# Altium footprint library Button_Switch_SMD.PcbLib: 169 footprints (part 2 of 12)
Each footprint in its own frame and in the unit in brackets; x right, y up, seen from the top. Pads: shape width x height; smd on the part's side, far side on the other; paste and mask are expansions set on the pad; w line width, h text height; cw(c..) or ccw(c..) is an arc to the next point about the centre after c.
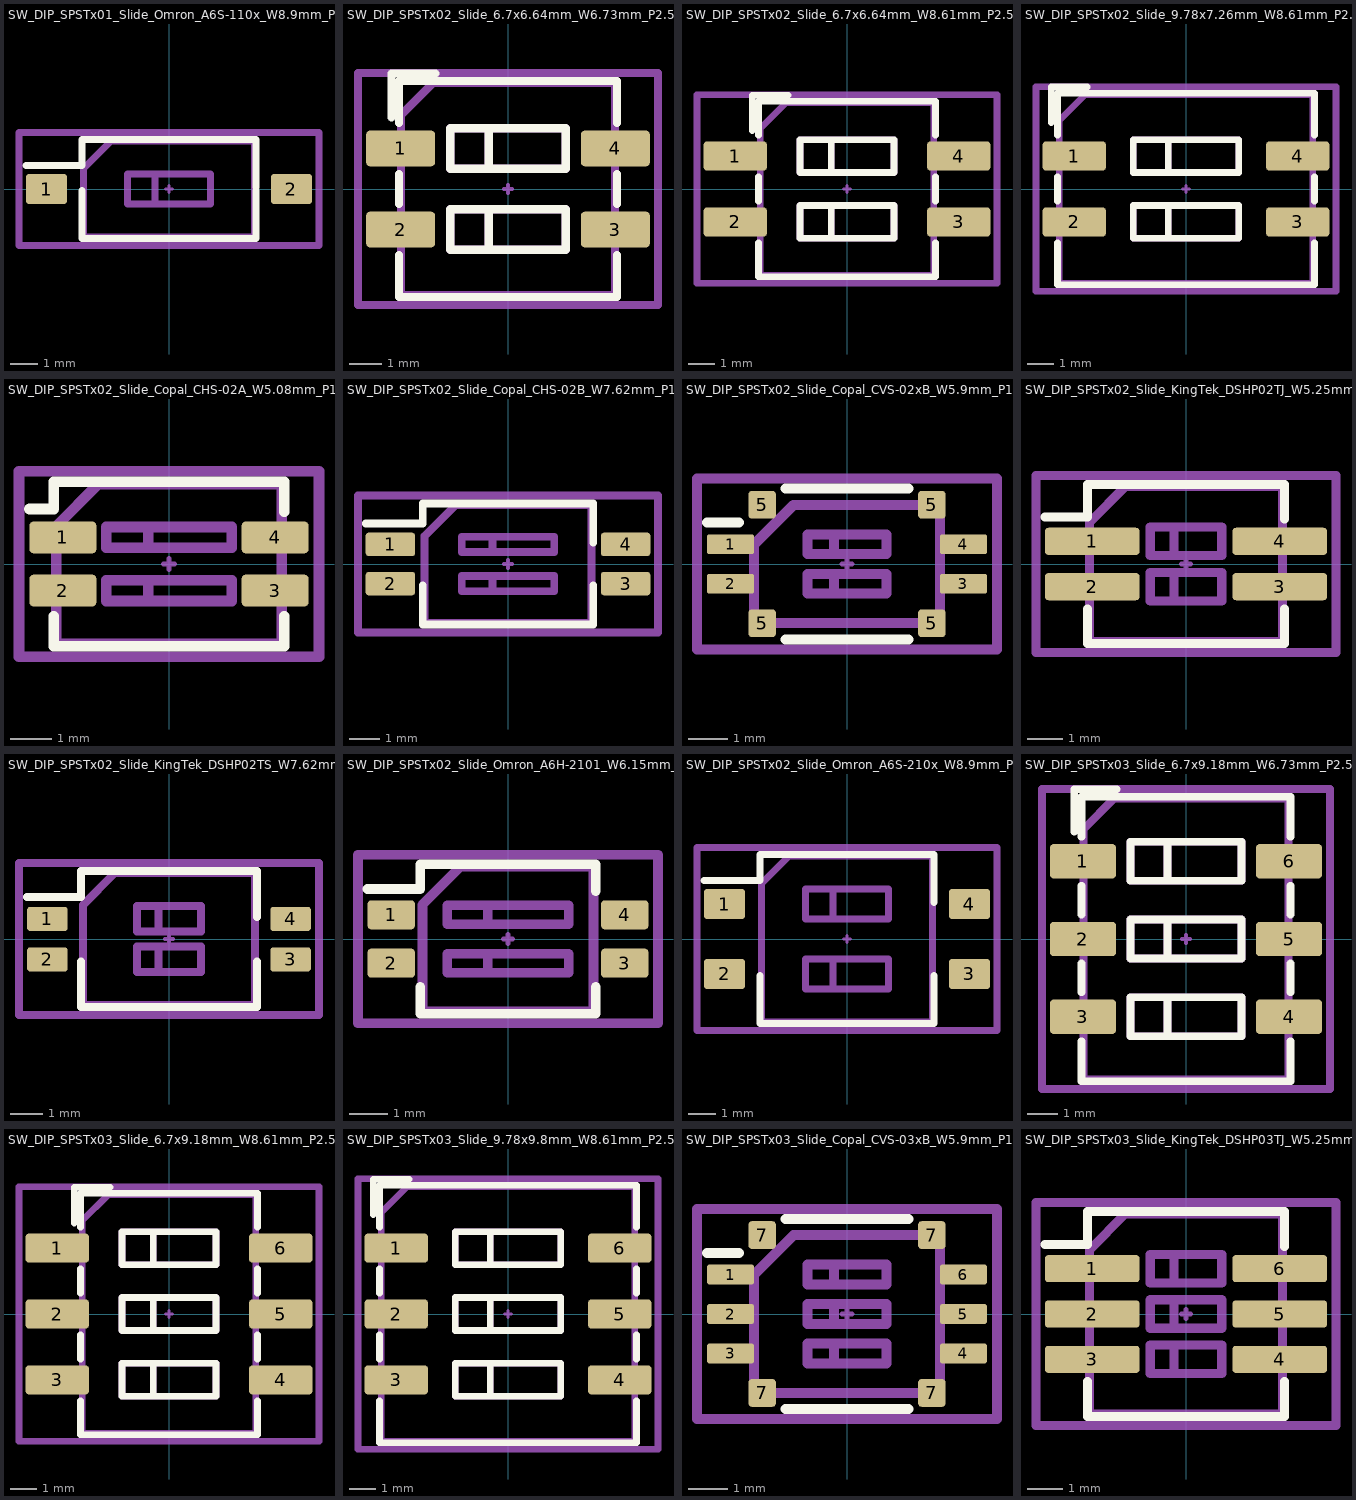
[diagram p1: the footprints below, top view; thin cyan lines are the x and y axes]

## SW_DIP_SPSTx01_Slide_Omron_A6S-110x_W8.9mm_P2.54mm [mm] "SW_DIP_SPSTx01_Slide_Omron_A6S-110x_W8.9mm_P2.54mm"
pads (2):
  rrect23% 1.5x1.1 smd: 1(-4.45,0) 2(4.45,0)
F.SilkS:
  lines w0.254: -5.2,0.85 -3.16,0.85 -3.16,1.8 3.16,1.8 3.16,0.06 ; -3.16,-0.06 -3.16,-1.8 3.16,-1.8 3.16,-0.06
Top Component Center:
  lines w0.127: -0.127,0 0.127,0 ; 0,-0.127 0,0.127
Top Assembly:
  lines w0.254: -1.5,-0.55 -1.5,0.55 ; -1.5,-0.55 -0.5,-0.55 ; -1.5,-0.55 -1.5,0.55 ; -1.5,-0.55 1.5,-0.55 1.5,0.55 -1.5,0.55 ; -1.5,0.55 -0.5,0.55 ; -0.5,-0.55 -0.5,0.55 ; -0.5,-0.55 -0.5,0.55 ; -3.1,-1.74 -3.1,0.74 -2.1,1.74 3.1,1.74 3.1,-1.74 -3.1,-1.74
  text "on" at -0.423,0.855 h0.6
Top Courtyard:
  lines w0.254: -5.45,-2.05 -5.45,2.05 5.45,2.05 5.45,-2.05 -5.45,-2.05
Top Designator:
  text ".Designator" at -3.305,-1.361 h1.52
3D body "SW_DIP_SPSTx01_Slide_Omron_A6S-110x_W8.9mm_P2.54mm.step": height 3.1, standoff 0.03, extent -4.9,-1.74 4.9,1.74

## SW_DIP_SPSTx02_Slide_6.7x6.64mm_W6.73mm_P2.54mm_LowProfile_JPin [mm] "SW_DIP_SPSTx02_Slide_6.7x6.64mm_W6.73mm_P2.54mm_LowProfile_JPin"
pads (4):
  rrect22% 2.16x1.12 smd: 1(-3.365,1.27) 2(-3.365,-1.27) 3(3.365,-1.27) 4(3.365,1.27)
F.SilkS:
  lines w0.254: -3.65,2.237 -3.65,3.62 -2.267,3.62 ; -3.41,-2.07 -3.41,-3.38 3.41,-3.38 3.41,-2.07 ; -3.41,-0.47 -3.41,0.47 ; -3.41,2.07 -3.41,3.38 3.41,3.38 3.41,2.07 ; 3.41,-0.47 3.41,0.47 ; -1.81,-1.905 -1.81,-0.635 ; -1.81,-1.905 -0.603,-1.905 ; -1.81,-1.905 -1.81,-0.635 ; -1.81,-1.905 1.81,-1.905 1.81,-0.635 -1.81,-0.635 ; -1.81,-0.635 -0.603,-0.635 ; -1.81,0.635 -1.81,1.905 ; -1.81,0.635 -0.603,0.635 ; -1.81,0.635 -1.81,1.905 ; -1.81,0.635 1.81,0.635 1.81,1.905 -1.81,1.905 ; -1.81,1.905 -0.603,1.905 ; -0.603,-1.905 -0.603,-0.635 ; -0.603,-1.905 -0.603,-0.635 ; -0.603,0.635 -0.603,1.905 ; -0.603,0.635 -0.603,1.905
Top Component Center:
  lines w0.127: -0.127,0 0.127,0 ; 0,-0.127 0,0.127
Top Assembly:
  lines w0.254: -1.81,-1.905 -1.81,-0.635 ; -1.81,-1.905 -0.603,-1.905 ; -1.81,-1.905 -1.81,-0.635 ; -1.81,-1.905 1.81,-1.905 1.81,-0.635 -1.81,-0.635 ; -1.81,-0.635 -0.603,-0.635 ; -1.81,0.635 -1.81,1.905 ; -1.81,0.635 -0.603,0.635 ; -1.81,0.635 -1.81,1.905 ; -1.81,0.635 1.81,0.635 1.81,1.905 -1.81,1.905 ; -1.81,1.905 -0.603,1.905 ; -0.603,-1.905 -0.603,-0.635 ; -0.603,-1.905 -0.603,-0.635 ; -0.603,0.635 -0.603,1.905 ; -0.603,0.635 -0.603,1.905 ; -3.35,-3.32 -3.35,2.32 -2.35,3.32 3.35,3.32 3.35,-3.32 -3.35,-3.32
  text "on" at 0.233,2.226 h0.8
Top Courtyard:
  lines w0.254: -4.7,-3.63 -4.7,3.63 4.7,3.63 4.7,-3.63 -4.7,-3.63
Top Designator:
  text ".Designator" at -3.432,-0.345 h1.52
3D body "SW_DIP_SPSTx02_Slide_6.7x6.64mm_W6.73mm_P2.54mm_LowProfile_JPin.step": height 3.2, standoff -0.1, extent -3.32,-3.45 3.32,3.45

## SW_DIP_SPSTx02_Slide_6.7x6.64mm_W8.61mm_P2.54mm_LowProfile [mm] "SW_DIP_SPSTx02_Slide_6.7x6.64mm_W8.61mm_P2.54mm_LowProfile"
pads (4):
  rrect22% 2.44x1.12 smd: 1(-4.305,1.27) 2(-4.305,-1.27) 3(4.305,-1.27) 4(4.305,1.27)
F.SilkS:
  lines w0.254: -3.65,2.237 -3.65,3.62 -2.267,3.62 ; -3.41,-2.07 -3.41,-3.38 3.41,-3.38 3.41,-2.07 ; -3.41,-0.47 -3.41,0.47 ; -3.41,2.07 -3.41,3.38 3.41,3.38 3.41,2.07 ; 3.41,-0.47 3.41,0.47 ; -1.81,-1.905 -1.81,-0.635 ; -1.81,-1.905 -0.603,-1.905 ; -1.81,-1.905 -1.81,-0.635 ; -1.81,-1.905 1.81,-1.905 1.81,-0.635 -1.81,-0.635 ; -1.81,-0.635 -0.603,-0.635 ; -1.81,0.635 -1.81,1.905 ; -1.81,0.635 -0.603,0.635 ; -1.81,0.635 -1.81,1.905 ; -1.81,0.635 1.81,0.635 1.81,1.905 -1.81,1.905 ; -1.81,1.905 -0.603,1.905 ; -0.603,-1.905 -0.603,-0.635 ; -0.603,-1.905 -0.603,-0.635 ; -0.603,0.635 -0.603,1.905 ; -0.603,0.635 -0.603,1.905
Top Component Center:
  lines w0.127: -0.127,0 0.127,0 ; 0,-0.127 0,0.127
Top Assembly:
  lines w0.254: -1.81,-1.905 -1.81,-0.635 ; -1.81,-1.905 -0.603,-1.905 ; -1.81,-1.905 -1.81,-0.635 ; -1.81,-1.905 1.81,-1.905 1.81,-0.635 -1.81,-0.635 ; -1.81,-0.635 -0.603,-0.635 ; -1.81,0.635 -1.81,1.905 ; -1.81,0.635 -0.603,0.635 ; -1.81,0.635 -1.81,1.905 ; -1.81,0.635 1.81,0.635 1.81,1.905 -1.81,1.905 ; -1.81,1.905 -0.603,1.905 ; -0.603,-1.905 -0.603,-0.635 ; -0.603,-1.905 -0.603,-0.635 ; -0.603,0.635 -0.603,1.905 ; -0.603,0.635 -0.603,1.905 ; -3.35,-3.32 -3.35,2.32 -2.35,3.32 3.35,3.32 3.35,-3.32 -3.35,-3.32
  text "on" at -0.237,2.226 h0.8
Top Courtyard:
  lines w0.254: -5.78,-3.63 -5.78,3.63 5.78,3.63 5.78,-3.63 -5.78,-3.63
Top Designator:
  text ".Designator" at -3.432,-0.345 h1.52
3D body "SW_DIP_SPSTx02_Slide_6.7x6.64mm_W8.61mm_P2.54mm_LowProfile.step": height 2.7, standoff 0, extent -3.32,-4.305 3.32,4.305

## SW_DIP_SPSTx02_Slide_9.78x7.26mm_W8.61mm_P2.54mm [mm] "SW_DIP_SPSTx02_Slide_9.78x7.26mm_W8.61mm_P2.54mm"
pads (4):
  rrect22% 2.44x1.12 smd: 1(-4.305,1.27) 2(-4.305,-1.27) 3(4.305,-1.27) 4(4.305,1.27)
F.SilkS:
  lines w0.254: -5.19,2.547 -5.19,3.93 -3.807,3.93 ; -4.95,-2.07 -4.95,-3.69 4.95,-3.69 4.95,-2.07 ; -4.95,-0.47 -4.95,0.47 ; -4.95,2.07 -4.95,3.69 4.95,3.69 4.95,2.07 ; 4.95,-0.47 4.95,0.47 ; -2.03,-1.905 -2.03,-0.635 ; -2.03,-1.905 -0.677,-1.905 ; -2.03,-1.905 -2.03,-0.635 ; -2.03,-1.905 2.03,-1.905 2.03,-0.635 -2.03,-0.635 ; -2.03,-0.635 -0.677,-0.635 ; -2.03,0.635 -2.03,1.905 ; -2.03,0.635 -0.677,0.635 ; -2.03,0.635 -2.03,1.905 ; -2.03,0.635 2.03,0.635 2.03,1.905 -2.03,1.905 ; -2.03,1.905 -0.677,1.905 ; -0.677,-1.905 -0.677,-0.635 ; -0.677,-1.905 -0.677,-0.635 ; -0.677,0.635 -0.677,1.905 ; -0.677,0.635 -0.677,1.905
Top Component Center:
  lines w0.127: -0.127,0 0.127,0 ; 0,-0.127 0,0.127
Top Assembly:
  lines w0.254: -2.03,-1.905 -2.03,-0.635 ; -2.03,-1.905 -0.677,-1.905 ; -2.03,-1.905 -2.03,-0.635 ; -2.03,-1.905 2.03,-1.905 2.03,-0.635 -2.03,-0.635 ; -2.03,-0.635 -0.677,-0.635 ; -2.03,0.635 -2.03,1.905 ; -2.03,0.635 -0.677,0.635 ; -2.03,0.635 -2.03,1.905 ; -2.03,0.635 2.03,0.635 2.03,1.905 -2.03,1.905 ; -2.03,1.905 -0.677,1.905 ; -0.677,-1.905 -0.677,-0.635 ; -0.677,-1.905 -0.677,-0.635 ; -0.677,0.635 -0.677,1.905 ; -0.677,0.635 -0.677,1.905 ; -4.89,-3.63 -4.89,2.63 -3.89,3.63 4.89,3.63 4.89,-3.63 -4.89,-3.63
  text "on" at 0.643,2.381 h0.8
Top Courtyard:
  lines w0.254: -5.78,-3.94 -5.78,3.94 5.78,3.94 5.78,-3.94 -5.78,-3.94
Top Designator:
  text ".Designator" at -3.432,-0.345 h1.52
3D body "SW_DIP_SPSTx02_Slide_9.78x7.26mm_W8.61mm_P2.54mm.step": height 8.6, standoff 0, extent -3.63,-5.2 3.63,5.2

## SW_DIP_SPSTx02_Slide_Copal_CHS-02A_W5.08mm_P1.27mm_JPin [mm] "SW_DIP_SPSTx02_Slide_Copal_CHS-02A_W5.08mm_P1.27mm_JPin"
pads (4):
  rrect25% 1.6x0.76 smd: 1(-2.54,0.635) 2(-2.54,-0.635) 3(2.54,-0.635) 4(2.54,0.635)
F.SilkS:
  lines w0.254: -3.34,1.315 -2.76,1.315 -2.76,1.965 2.76,1.965 2.76,1.255 ; -2.76,-1.255 -2.76,-1.965 2.76,-1.965 2.76,-1.255
Top Component Center:
  lines w0.127: -0.127,0 0.127,0 ; 0,-0.127 0,0.127
Top Assembly:
  lines w0.254: -1.5,-0.885 -1.5,-0.385 ; -1.5,-0.885 -0.5,-0.885 ; -1.5,-0.885 -1.5,-0.385 ; -1.5,-0.885 1.5,-0.885 1.5,-0.385 -1.5,-0.385 ; -1.5,-0.385 -0.5,-0.385 ; -1.5,0.385 -1.5,0.885 ; -1.5,0.385 -0.5,0.385 ; -1.5,0.385 -1.5,0.885 ; -1.5,0.385 1.5,0.385 1.5,0.885 -1.5,0.885 ; -1.5,0.885 -0.5,0.885 ; -0.5,-0.885 -0.5,-0.385 ; -0.5,-0.885 -0.5,-0.385 ; -0.5,0.385 -0.5,0.885 ; -0.5,0.385 -0.5,0.885 ; -2.7,-1.905 -2.7,0.905 -1.7,1.905 2.7,1.905 2.7,-1.905 -2.7,-1.905
  text "on" at 0.165,1.008 h0.8
Top Courtyard:
  lines w0.254: -3.59,-2.22 -3.59,2.22 3.59,2.22 3.59,-2.22 -3.59,-2.22
Top Designator:
  text ".Designator" at -3.432,-0.345 h1.52
3D body "SW_DIP_SPSTx02_Slide_Copal_CHS-02A_W5.08mm_P1.27mm_JPin.step": height 2.65, standoff 0, extent -2.8,-1.885 2.8,1.885

## SW_DIP_SPSTx02_Slide_Copal_CHS-02B_W7.62mm_P1.27mm [mm] "SW_DIP_SPSTx02_Slide_Copal_CHS-02B_W7.62mm_P1.27mm"
pads (4):
  rrect25% 1.6x0.76 smd: 1(-3.81,0.635) 2(-3.81,-0.635) 3(3.81,-0.635) 4(3.81,0.635)
F.SilkS:
  lines w0.254: -4.61,1.315 -2.76,1.315 -2.76,1.965 2.76,1.965 2.76,0.695 ; -2.76,-0.695 -2.76,-1.965 2.76,-1.965 2.76,-0.695
Top Component Center:
  lines w0.127: -0.127,0 0.127,0 ; 0,-0.127 0,0.127
Top Assembly:
  lines w0.254: -1.5,-0.885 -1.5,-0.385 ; -1.5,-0.885 -0.5,-0.885 ; -1.5,-0.885 -1.5,-0.385 ; -1.5,-0.885 1.5,-0.885 1.5,-0.385 -1.5,-0.385 ; -1.5,-0.385 -0.5,-0.385 ; -1.5,0.385 -1.5,0.885 ; -1.5,0.385 -0.5,0.385 ; -1.5,0.385 -1.5,0.885 ; -1.5,0.385 1.5,0.385 1.5,0.885 -1.5,0.885 ; -1.5,0.885 -0.5,0.885 ; -0.5,-0.885 -0.5,-0.385 ; -0.5,-0.885 -0.5,-0.385 ; -0.5,0.385 -0.5,0.885 ; -0.5,0.385 -0.5,0.885 ; -2.7,-1.905 -2.7,0.905 -1.7,1.905 2.7,1.905 2.7,-1.905 -2.7,-1.905
  text "on" at -0.47,1.008 h0.8
Top Courtyard:
  lines w0.254: -4.86,-2.22 -4.86,2.22 4.86,2.22 4.86,-2.22 -4.86,-2.22
Top Designator:
  text ".Designator" at -3.432,-0.345 h1.52
3D body "SW_DIP_SPSTx02_Slide_Copal_CHS-02B_W7.62mm_P1.27mm.step": height 2.6, standoff 0.03, extent -4,-1.885 4,1.885

## SW_DIP_SPSTx02_Slide_Copal_CVS-02xB_W5.9mm_P1mm [mm] "SW_DIP_SPSTx02_Slide_Copal_CVS-02xB_W5.9mm_P1mm"
pads (8):
  rrect25% 1.2x0.5 smd: 1(-2.95,0.5) 2(-2.95,-0.5) 3(2.95,-0.5) 4(2.95,0.5)
  rrect25% 0.7x0.7 smd: 5(-2.15,-1.5) 5(-2.15,1.5) 5(2.15,-1.5) 5(2.15,1.5)
F.SilkS:
  lines w0.254: -3.55,1.05 -2.74,1.05 ; -1.56,-1.91 1.56,-1.91 ; -1.56,1.91 1.56,1.91
Top Component Center:
  lines w0.127: -0.127,0 0.127,0 ; 0,-0.127 0,0.127
Top Assembly:
  lines w0.254: -1,-0.75 -1,-0.25 ; -1,-0.75 -0.333,-0.75 ; -1,-0.75 -1,-0.25 ; -1,-0.75 1,-0.75 1,-0.25 -1,-0.25 ; -1,-0.25 -0.333,-0.25 ; -1,0.25 -1,0.75 ; -1,0.25 -0.333,0.25 ; -1,0.25 -1,0.75 ; -1,0.25 1,0.25 1,0.75 -1,0.75 ; -1,0.75 -0.333,0.75 ; -0.333,-0.75 -0.333,-0.25 ; -0.333,-0.75 -0.333,-0.25 ; -0.333,0.25 -0.333,0.75 ; -0.333,0.25 -0.333,0.75 ; -2.35,-1.5 -2.35,0.5 -1.35,1.5 2.35,1.5 2.35,-1.5 -2.35,-1.5
  text "on" at -0.465,0.738 h0.8
Top Courtyard:
  lines w0.254: -3.8,-2.16 -3.8,2.16 3.8,2.16 3.8,-2.16 -3.8,-2.16
Top Designator:
  text ".Designator" at -3.432,-0.345 h1.52
3D body "SW_DIP_SPSTx02_Slide_Copal_CVS-02xB_W5.9mm_P1mm.step": height 1.58, standoff 0.08, extent -3.05,-1.5 3.05,1.5

## SW_DIP_SPSTx02_Slide_KingTek_DSHP02TJ_W5.25mm_P1.27mm_JPin [mm] "SW_DIP_SPSTx02_Slide_KingTek_DSHP02TJ_W5.25mm_P1.27mm_JPin"
pads (4):
  rrect25% 2.65x0.76 smd: 1(-2.625,0.635) 2(-2.625,-0.635) 3(2.625,-0.635) 4(2.625,0.635)
F.SilkS:
  lines w0.254: -3.95,1.315 -2.76,1.315 -2.76,2.23 2.76,2.23 2.76,1.255 ; -2.76,-1.255 -2.76,-2.23 2.76,-2.23 2.76,-1.255
Top Component Center:
  lines w0.127: -0.127,0 0.127,0 ; 0,-0.127 0,0.127
Top Assembly:
  lines w0.254: -1,-1.035 -1,-0.235 ; -1,-1.035 -0.333,-1.035 ; -1,-1.035 -1,-0.235 ; -1,-1.035 1,-1.035 1,-0.235 -1,-0.235 ; -1,-0.235 -0.333,-0.235 ; -1,0.235 -1,1.035 ; -1,0.235 -0.333,0.235 ; -1,0.235 -1,1.035 ; -1,0.235 1,0.235 1,1.035 -1,1.035 ; -1,1.035 -0.333,1.035 ; -0.333,-1.035 -0.333,-0.235 ; -0.333,-1.035 -0.333,-0.235 ; -0.333,0.235 -0.333,1.035 ; -0.333,0.235 -0.333,1.035 ; -2.7,-2.17 -2.7,1.17 -1.7,2.17 2.7,2.17 2.7,-2.17 -2.7,-2.17
  text "on" at -0.127,1.216 h0.8
Top Courtyard:
  lines w0.254: -4.2,-2.48 -4.2,2.48 4.2,2.48 4.2,-2.48 -4.2,-2.48
Top Designator:
  text ".Designator" at -3.432,-0.345 h1.52
3D body "SW_DIP_SPSTx02_Slide_KingTek_DSHP02TJ_W5.25mm_P1.27mm_JPin.step": height 2.4, standoff -0.05, extent -2.8,-2.07 2.8,2.07

## SW_DIP_SPSTx02_Slide_KingTek_DSHP02TS_W7.62mm_P1.27mm [mm] "SW_DIP_SPSTx02_Slide_KingTek_DSHP02TS_W7.62mm_P1.27mm"
pads (4):
  rrect25% 1.27x0.76 smd: 1(-3.81,0.635) 2(-3.81,-0.635) 3(3.81,-0.635) 4(3.81,0.635)
F.SilkS:
  lines w0.254: -4.445,1.315 -2.76,1.315 -2.76,2.13 2.76,2.13 2.76,0.695 ; -2.76,-0.695 -2.76,-2.13 2.76,-2.13 2.76,-0.695
Top Component Center:
  lines w0.127: -0.127,0 0.127,0 ; 0,-0.127 0,0.127
Top Assembly:
  lines w0.254: -1,-1.035 -1,-0.235 ; -1,-1.035 -0.333,-1.035 ; -1,-1.035 -1,-0.235 ; -1,-1.035 1,-1.035 1,-0.235 -1,-0.235 ; -1,-0.235 -0.333,-0.235 ; -1,0.235 -1,1.035 ; -1,0.235 -0.333,0.235 ; -1,0.235 -1,1.035 ; -1,0.235 1,0.235 1,1.035 -1,1.035 ; -1,1.035 -0.333,1.035 ; -0.333,-1.035 -0.333,-0.235 ; -0.333,-1.035 -0.333,-0.235 ; -0.333,0.235 -0.333,1.035 ; -0.333,0.235 -0.333,1.035 ; -2.7,-2.07 -2.7,1.07 -1.7,2.07 2.7,2.07 2.7,-2.07 -2.7,-2.07
  text "on" at -0.72,1.166 h0.8
Top Courtyard:
  lines w0.254: -4.7,-2.38 -4.7,2.39 4.7,2.39 4.7,-2.38 -4.7,-2.38
Top Designator:
  text ".Designator" at -3.432,-0.345 h1.52
3D body "SW_DIP_SPSTx02_Slide_KingTek_DSHP02TS_W7.62mm_P1.27mm.step": height 2.45, standoff 0.08, extent -4.175,-2.07 4.175,2.07

## SW_DIP_SPSTx02_Slide_Omron_A6H-2101_W6.15mm_P1.27mm [mm] "SW_DIP_SPSTx02_Slide_Omron_A6H-2101_W6.15mm_P1.27mm"
pads (4):
  rrect25% 1.25x0.76 smd: 1(-3.075,0.635) 2(-3.075,-0.635) 3(3.075,-0.635) 4(3.075,0.635)
F.SilkS:
  lines w0.254: -3.7,1.315 -2.31,1.315 -2.31,1.965 2.31,1.965 2.31,1.255 ; -2.31,-1.255 -2.31,-1.965 2.31,-1.965 2.31,-1.255
Top Component Center:
  lines w0.127: -0.127,0 0.127,0 ; 0,-0.127 0,0.127
Top Assembly:
  lines w0.254: -1.6,-0.885 1.6,-0.885 1.6,-0.385 -1.6,-0.385 ; -1.6,-0.885 -1.6,-0.385 ; -1.6,-0.885 -0.533,-0.885 ; -1.6,-0.885 -1.6,-0.385 ; -1.6,-0.385 -0.533,-0.385 ; -1.6,0.385 1.6,0.385 1.6,0.885 -1.6,0.885 ; -1.6,0.385 -1.6,0.885 ; -1.6,0.385 -0.533,0.385 ; -1.6,0.385 -1.6,0.885 ; -1.6,0.885 -0.533,0.885 ; -0.533,-0.885 -0.533,-0.385 ; -0.533,-0.885 -0.533,-0.385 ; -0.533,0.385 -0.533,0.885 ; -0.533,0.385 -0.533,0.885 ; -2.25,-1.905 2.25,-1.905 2.25,1.905 -1.25,1.905 -2.25,0.905 -2.25,-1.905
  text "on" at 0.009,1.175 h0.46
Top Courtyard:
  lines w0.254: -3.95,-2.22 3.95,-2.22 3.95,2.22 -3.95,2.22 -3.95,-2.22
Top Designator:
  text ".Designator" at -3.432,-0.345 h1.52
3D body "SW_DIP_SPSTx02_Slide_Omron_A6H-2101_W6.15mm_P1.27mm.step": height 1.55, standoff 0.03, extent -3.35,-1.885 3.35,1.885

## SW_DIP_SPSTx02_Slide_Omron_A6S-210x_W8.9mm_P2.54mm [mm] "SW_DIP_SPSTx02_Slide_Omron_A6S-210x_W8.9mm_P2.54mm"
pads (4):
  rrect23% 1.5x1.1 smd: 1(-4.45,1.27) 2(-4.45,-1.27) 3(4.45,-1.27) 4(4.45,1.27)
F.SilkS:
  lines w0.254: -5.2,2.12 -3.16,2.12 -3.16,3.07 3.16,3.07 3.16,1.33 ; -3.16,-1.33 -3.16,-3.07 3.16,-3.07 3.16,-1.33
Top Component Center:
  lines w0.127: -0.127,0 0.127,0 ; 0,-0.127 0,0.127
Top Assembly:
  lines w0.254: -1.5,-1.82 -1.5,-0.72 ; -1.5,-1.82 -0.5,-1.82 ; -1.5,-1.82 -1.5,-0.72 ; -1.5,-1.82 1.5,-1.82 1.5,-0.72 -1.5,-0.72 ; -1.5,-0.72 -0.5,-0.72 ; -1.5,0.72 -1.5,1.82 ; -1.5,0.72 -0.5,0.72 ; -1.5,0.72 -1.5,1.82 ; -1.5,0.72 1.5,0.72 1.5,1.82 -1.5,1.82 ; -1.5,1.82 -0.5,1.82 ; -0.5,-1.82 -0.5,-0.72 ; -0.5,-1.82 -0.5,-0.72 ; -0.5,0.72 -0.5,1.82 ; -0.5,0.72 -0.5,1.82 ; -3.1,-3.01 -3.1,2.01 -2.1,3.01 3.1,3.01 3.1,-3.01 -3.1,-3.01
  text "on" at -0.59,2.028 h0.8
Top Courtyard:
  lines w0.254: -5.45,-3.32 -5.45,3.32 5.45,3.32 5.45,-3.32 -5.45,-3.32
Top Designator:
  text ".Designator" at -3.432,-0.345 h1.52
3D body "SW_DIP_SPSTx02_Slide_Omron_A6S-210x_W8.9mm_P2.54mm.step": height 3.1, standoff 0.03, extent -4.9,-3.01 4.9,3.01

## SW_DIP_SPSTx03_Slide_6.7x9.18mm_W6.73mm_P2.54mm_LowProfile_JPin [mm] "SW_DIP_SPSTx03_Slide_6.7x9.18mm_W6.73mm_P2.54mm_LowProfile_JPin"
pads (6):
  rrect22% 2.16x1.12 smd: 1(-3.365,2.54) 2(-3.365,0) 3(-3.365,-2.54) 4(3.365,-2.54) 5(3.365,0) 6(3.365,2.54)
F.SilkS:
  lines w0.254: -3.65,3.507 -3.65,4.89 -2.267,4.89 ; -3.41,-3.34 -3.41,-4.65 3.41,-4.65 3.41,-3.34 ; -3.41,-1.74 -3.41,-0.8 ; -3.41,0.8 -3.41,1.74 ; -3.41,3.34 -3.41,4.65 3.41,4.65 3.41,3.34 ; 3.41,-1.74 3.41,-0.8 ; 3.41,0.8 3.41,1.74 ; -1.81,-3.175 -1.81,-1.905 ; -1.81,-3.175 -0.603,-3.175 ; -1.81,-3.175 -1.81,-1.905 ; -1.81,-3.175 1.81,-3.175 1.81,-1.905 -1.81,-1.905 ; -1.81,-1.905 -0.603,-1.905 ; -1.81,-0.635 -1.81,0.635 ; -1.81,-0.635 -0.603,-0.635 ; -1.81,-0.635 -1.81,0.635 ; -1.81,-0.635 1.81,-0.635 1.81,0.635 -1.81,0.635 ; -1.81,0.635 -0.603,0.635 ; -1.81,1.905 -1.81,3.175 ; -1.81,1.905 -0.603,1.905 ; -1.81,1.905 -1.81,3.175 ; -1.81,1.905 1.81,1.905 1.81,3.175 -1.81,3.175 ; -1.81,3.175 -0.603,3.175 ; -0.603,-3.175 -0.603,-1.905 ; -0.603,-3.175 -0.603,-1.905 ; -0.603,-0.635 -0.603,0.635 ; -0.603,-0.635 -0.603,0.635 ; -0.603,1.905 -0.603,3.175 ; -0.603,1.905 -0.603,3.175
Top Component Center:
  lines w0.127: -0.127,0 0.127,0 ; 0,-0.127 0,0.127
Top Assembly:
  lines w0.254: -1.81,-3.175 -1.81,-1.905 ; -1.81,-3.175 -0.603,-3.175 ; -1.81,-3.175 -1.81,-1.905 ; -1.81,-3.175 1.81,-3.175 1.81,-1.905 -1.81,-1.905 ; -1.81,-1.905 -0.603,-1.905 ; -1.81,-0.635 -1.81,0.635 ; -1.81,-0.635 -0.603,-0.635 ; -1.81,-0.635 -1.81,0.635 ; -1.81,-0.635 1.81,-0.635 1.81,0.635 -1.81,0.635 ; -1.81,0.635 -0.603,0.635 ; -1.81,1.905 -1.81,3.175 ; -1.81,1.905 -0.603,1.905 ; -1.81,1.905 -1.81,3.175 ; -1.81,1.905 1.81,1.905 1.81,3.175 -1.81,3.175 ; -1.81,3.175 -0.603,3.175 ; -0.603,-3.175 -0.603,-1.905 ; -0.603,-3.175 -0.603,-1.905 ; -0.603,-0.635 -0.603,0.635 ; -0.603,-0.635 -0.603,0.635 ; -0.603,1.905 -0.603,3.175 ; -0.603,1.905 -0.603,3.175 ; -3.35,-4.59 -3.35,3.59 -2.35,4.59 3.35,4.59 3.35,-4.59 -3.35,-4.59
  text "on" at 0.233,3.496 h0.8
Top Courtyard:
  lines w0.254: -4.7,-4.9 -4.7,4.9 4.7,4.9 4.7,-4.9 -4.7,-4.9
Top Designator:
  text ".Designator" at -3.432,0.798 h1.52
3D body "SW_DIP_SPSTx03_Slide_6.7x9.18mm_W6.73mm_P2.54mm_LowProfile_JPin.step": height 3.2, standoff -0.1, extent -4.59,-3.45 4.59,3.45

## SW_DIP_SPSTx03_Slide_6.7x9.18mm_W8.61mm_P2.54mm_LowProfile [mm] "SW_DIP_SPSTx03_Slide_6.7x9.18mm_W8.61mm_P2.54mm_LowProfile"
pads (6):
  rrect22% 2.44x1.12 smd: 1(-4.305,2.54) 2(-4.305,0) 3(-4.305,-2.54) 4(4.305,-2.54) 5(4.305,0) 6(4.305,2.54)
F.SilkS:
  lines w0.254: -3.65,3.507 -3.65,4.89 -2.267,4.89 ; -3.41,-3.34 -3.41,-4.65 3.41,-4.65 3.41,-3.34 ; -3.41,-1.74 -3.41,-0.8 ; -3.41,0.8 -3.41,1.74 ; -3.41,3.34 -3.41,4.65 3.41,4.65 3.41,3.34 ; 3.41,-1.74 3.41,-0.8 ; 3.41,0.8 3.41,1.74 ; -1.81,-3.175 -1.81,-1.905 ; -1.81,-3.175 -0.603,-3.175 ; -1.81,-3.175 -1.81,-1.905 ; -1.81,-3.175 1.81,-3.175 1.81,-1.905 -1.81,-1.905 ; -1.81,-1.905 -0.603,-1.905 ; -1.81,-0.635 -1.81,0.635 ; -1.81,-0.635 -0.603,-0.635 ; -1.81,-0.635 -1.81,0.635 ; -1.81,-0.635 1.81,-0.635 1.81,0.635 -1.81,0.635 ; -1.81,0.635 -0.603,0.635 ; -1.81,1.905 -1.81,3.175 ; -1.81,1.905 -0.603,1.905 ; -1.81,1.905 -1.81,3.175 ; -1.81,1.905 1.81,1.905 1.81,3.175 -1.81,3.175 ; -1.81,3.175 -0.603,3.175 ; -0.603,-3.175 -0.603,-1.905 ; -0.603,-3.175 -0.603,-1.905 ; -0.603,-0.635 -0.603,0.635 ; -0.603,-0.635 -0.603,0.635 ; -0.603,1.905 -0.603,3.175 ; -0.603,1.905 -0.603,3.175
Top Component Center:
  lines w0.127: -0.127,0 0.127,0 ; 0,-0.127 0,0.127
Top Assembly:
  lines w0.254: -1.81,-3.175 -1.81,-1.905 ; -1.81,-3.175 -0.603,-3.175 ; -1.81,-3.175 -1.81,-1.905 ; -1.81,-3.175 1.81,-3.175 1.81,-1.905 -1.81,-1.905 ; -1.81,-1.905 -0.603,-1.905 ; -1.81,-0.635 -1.81,0.635 ; -1.81,-0.635 -0.603,-0.635 ; -1.81,-0.635 -1.81,0.635 ; -1.81,-0.635 1.81,-0.635 1.81,0.635 -1.81,0.635 ; -1.81,0.635 -0.603,0.635 ; -1.81,1.905 -1.81,3.175 ; -1.81,1.905 -0.603,1.905 ; -1.81,1.905 -1.81,3.175 ; -1.81,1.905 1.81,1.905 1.81,3.175 -1.81,3.175 ; -1.81,3.175 -0.603,3.175 ; -0.603,-3.175 -0.603,-1.905 ; -0.603,-3.175 -0.603,-1.905 ; -0.603,-0.635 -0.603,0.635 ; -0.603,-0.635 -0.603,0.635 ; -0.603,1.905 -0.603,3.175 ; -0.603,1.905 -0.603,3.175 ; -3.35,-4.59 -3.35,3.59 -2.35,4.59 3.35,4.59 3.35,-4.59 -3.35,-4.59
  text "on" at -0.237,3.496 h0.8
Top Courtyard:
  lines w0.254: -5.78,-4.9 -5.78,4.9 5.78,4.9 5.78,-4.9 -5.78,-4.9
Top Designator:
  text ".Designator" at -3.559,0.798 h1.52
3D body "SW_DIP_SPSTx03_Slide_6.7x9.18mm_W8.61mm_P2.54mm_LowProfile.step": height 2.7, standoff 0, extent -4.59,-4.305 4.59,4.305

## SW_DIP_SPSTx03_Slide_9.78x9.8mm_W8.61mm_P2.54mm [mm] "SW_DIP_SPSTx03_Slide_9.78x9.8mm_W8.61mm_P2.54mm"
pads (6):
  rrect22% 2.44x1.12 smd: 1(-4.305,2.54) 2(-4.305,0) 3(-4.305,-2.54) 4(4.305,-2.54) 5(4.305,0) 6(4.305,2.54)
F.SilkS:
  lines w0.254: -5.19,3.817 -5.19,5.2 -3.807,5.2 ; -4.95,-3.34 -4.95,-4.96 4.95,-4.96 4.95,-3.34 ; -4.95,-1.74 -4.95,-0.8 ; -4.95,0.8 -4.95,1.74 ; -4.95,3.34 -4.95,4.96 4.95,4.96 4.95,3.34 ; 4.95,-1.74 4.95,-0.8 ; 4.95,0.8 4.95,1.74 ; -2.03,-3.175 2.03,-3.175 2.03,-1.905 -2.03,-1.905 ; -2.03,-3.175 -2.03,-1.905 ; -2.03,-3.175 -0.677,-3.175 ; -2.03,-3.175 -2.03,-1.905 ; -2.03,-1.905 -0.677,-1.905 ; -2.03,-0.635 2.03,-0.635 2.03,0.635 -2.03,0.635 ; -2.03,-0.635 -2.03,0.635 ; -2.03,-0.635 -0.677,-0.635 ; -2.03,-0.635 -2.03,0.635 ; -2.03,0.635 -0.677,0.635 ; -2.03,1.905 2.03,1.905 2.03,3.175 -2.03,3.175 ; -2.03,1.905 -2.03,3.175 ; -2.03,1.905 -0.677,1.905 ; -2.03,1.905 -2.03,3.175 ; -2.03,3.175 -0.677,3.175 ; -0.677,-3.175 -0.677,-1.905 ; -0.677,-3.175 -0.677,-1.905 ; -0.677,-0.635 -0.677,0.635 ; -0.677,-0.635 -0.677,0.635 ; -0.677,1.905 -0.677,3.175 ; -0.677,1.905 -0.677,3.175
Top Component Center:
  lines w0.127: -0.127,0 0.127,0 ; 0,-0.127 0,0.127
Top Assembly:
  lines w0.254: -2.03,-3.175 2.03,-3.175 2.03,-1.905 -2.03,-1.905 ; -2.03,-3.175 -2.03,-1.905 ; -2.03,-3.175 -0.677,-3.175 ; -2.03,-3.175 -2.03,-1.905 ; -2.03,-1.905 -0.677,-1.905 ; -2.03,-0.635 2.03,-0.635 2.03,0.635 -2.03,0.635 ; -2.03,-0.635 -2.03,0.635 ; -2.03,-0.635 -0.677,-0.635 ; -2.03,-0.635 -2.03,0.635 ; -2.03,0.635 -0.677,0.635 ; -2.03,1.905 2.03,1.905 2.03,3.175 -2.03,3.175 ; -2.03,1.905 -2.03,3.175 ; -2.03,1.905 -0.677,1.905 ; -2.03,1.905 -2.03,3.175 ; -2.03,3.175 -0.677,3.175 ; -0.677,-3.175 -0.677,-1.905 ; -0.677,-3.175 -0.677,-1.905 ; -0.677,-0.635 -0.677,0.635 ; -0.677,-0.635 -0.677,0.635 ; -0.677,1.905 -0.677,3.175 ; -0.677,1.905 -0.677,3.175 ; -4.89,-4.9 4.89,-4.9 4.89,4.9 -3.89,4.9 -4.89,3.9 -4.89,-4.9
  text "on" at 0.643,3.651 h0.8
Top Courtyard:
  lines w0.254: -5.78,-5.21 5.78,-5.21 5.78,5.21 -5.78,5.21 -5.78,-5.21
Top Designator:
  text ".Designator" at -3.305,0.798 h1.52
3D body "SW_DIP_SPSTx03_Slide_9.78x9.8mm_W8.61mm_P2.54mm.step": height 8.6, standoff 0, extent -4.9,-5.2 4.9,5.2

## SW_DIP_SPSTx03_Slide_Copal_CVS-03xB_W5.9mm_P1mm [mm] "SW_DIP_SPSTx03_Slide_Copal_CVS-03xB_W5.9mm_P1mm"
pads (10):
  rrect25% 1.2x0.5 smd: 1(-2.95,1) 2(-2.95,0) 3(-2.95,-1) 4(2.95,-1) 5(2.95,0) 6(2.95,1)
  rrect25% 0.7x0.7 smd: 7(-2.15,-2) 7(-2.15,2) 7(2.15,-2) 7(2.15,2)
F.SilkS:
  lines w0.254: -3.55,1.55 -2.74,1.55 ; -1.56,-2.41 1.56,-2.41 ; -1.56,2.41 1.56,2.41
Top Component Center:
  lines w0.127: -0.127,0 0.127,0 ; 0,-0.127 0,0.127
Top Assembly:
  lines w0.254: -1,-1.25 1,-1.25 1,-0.75 -1,-0.75 ; -1,-1.25 -1,-0.75 ; -1,-1.25 -0.333,-1.25 ; -1,-1.25 -1,-0.75 ; -1,-0.75 -0.333,-0.75 ; -1,-0.25 1,-0.25 1,0.25 -1,0.25 ; -1,-0.25 -1,0.25 ; -1,-0.25 -0.333,-0.25 ; -1,-0.25 -1,0.25 ; -1,0.25 -0.333,0.25 ; -1,0.75 1,0.75 1,1.25 -1,1.25 ; -1,0.75 -1,1.25 ; -1,0.75 -0.333,0.75 ; -1,0.75 -1,1.25 ; -1,1.25 -0.333,1.25 ; -0.333,-1.25 -0.333,-0.75 ; -0.333,-1.25 -0.333,-0.75 ; -0.333,-0.25 -0.333,0.25 ; -0.333,-0.25 -0.333,0.25 ; -0.333,0.75 -0.333,1.25 ; -0.333,0.75 -0.333,1.25 ; -2.35,-2 2.35,-2 2.35,2 -1.35,2 -2.35,1 -2.35,-2
  text "on" at -0.465,1.238 h0.8
Top Courtyard:
  lines w0.254: -3.8,-2.66 3.8,-2.66 3.8,2.66 -3.8,2.66 -3.8,-2.66
Top Designator:
  text ".Designator" at -3.432,-0.345 h1.52
3D body "SW_DIP_SPSTx03_Slide_Copal_CVS-03xB_W5.9mm_P1mm.step": height 1.58, standoff 0.08, extent -3.05,-2 3.05,2

## SW_DIP_SPSTx03_Slide_KingTek_DSHP03TJ_W5.25mm_P1.27mm_JPin [mm] "SW_DIP_SPSTx03_Slide_KingTek_DSHP03TJ_W5.25mm_P1.27mm_JPin"
pads (6):
  rrect25% 2.65x0.76 smd: 1(-2.625,1.27) 2(-2.625,0) 3(-2.625,-1.27) 4(2.625,-1.27) 5(2.625,0) 6(2.625,1.27)
F.SilkS:
  lines w0.254: -3.95,1.95 -2.76,1.95 -2.76,2.865 2.76,2.865 2.76,1.89 ; -2.76,-1.89 -2.76,-2.865 2.76,-2.865 2.76,-1.89
Top Component Center:
  lines w0.127: -0.127,0 0.127,0 ; 0,-0.127 0,0.127
Top Assembly:
  lines w0.254: -1,-1.67 -1,-0.87 ; -1,-1.67 -0.333,-1.67 ; -1,-1.67 -1,-0.87 ; -1,-1.67 1,-1.67 1,-0.87 -1,-0.87 ; -1,-0.87 -0.333,-0.87 ; -1,-0.4 -1,0.4 ; -1,-0.4 -0.333,-0.4 ; -1,-0.4 -1,0.4 ; -1,-0.4 1,-0.4 1,0.4 -1,0.4 ; -1,0.4 -0.333,0.4 ; -1,0.87 -1,1.67 ; -1,0.87 -0.333,0.87 ; -1,0.87 -1,1.67 ; -1,0.87 1,0.87 1,1.67 -1,1.67 ; -1,1.67 -0.333,1.67 ; -0.333,-1.67 -0.333,-0.87 ; -0.333,-1.67 -0.333,-0.87 ; -0.333,-0.4 -0.333,0.4 ; -0.333,-0.4 -0.333,0.4 ; -0.333,0.87 -0.333,1.67 ; -0.333,0.87 -0.333,1.67 ; -2.7,-2.805 -2.7,1.805 -1.7,2.805 2.7,2.805 2.7,-2.805 -2.7,-2.805
  text "on" at -0.127,1.851 h0.8
Top Courtyard:
  lines w0.254: -4.2,-3.12 -4.2,3.12 4.2,3.12 4.2,-3.12 -4.2,-3.12
Top Designator:
  text ".Designator" at -3.559,1.941 h1.52
3D body "SW_DIP_SPSTx03_Slide_KingTek_DSHP03TJ_W5.25mm_P1.27mm_JPin.step": height 2.4, standoff -0.05, extent -2.8,-2.705 2.8,2.705